# Altium schematic symbol library goldpin_female_sch.SchLib: 39 symbols
Pins are listed as number, name and electrical type; pins without a type are passive.

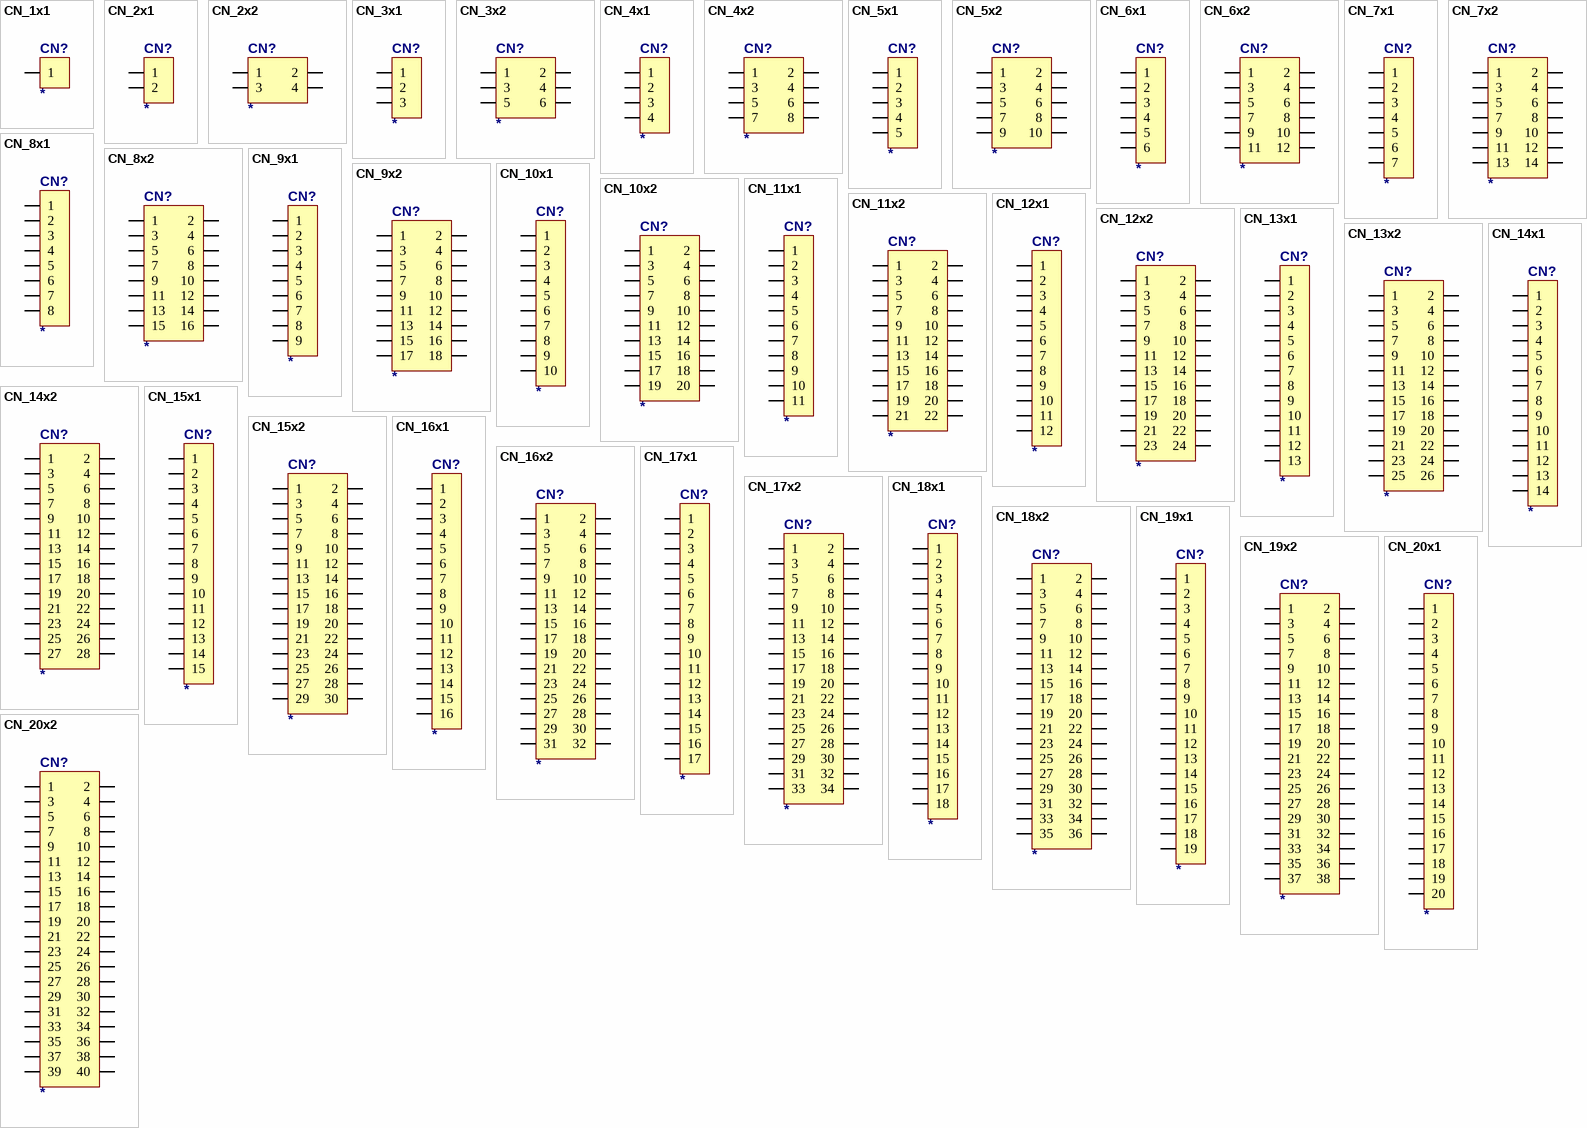
[diagram p0: symbols CN_1x1 to CN_20x2]

## CN_1x1
designator CN?
footprint GP_1x1_F
pins: 1

## CN_2x1
designator CN?
footprint GP_2x1_F
footprint GP_2x1H_F
pins: 1, 2

## CN_2x2
designator CN?
footprint GP_2x2_F
footprint GP_2x2H_F
pins: 1, 2, 3, 4

## CN_3x1
designator CN?
footprint GP_3x1_F
footprint GP_3x1H_F
pins: 1, 2, 3

## CN_3x2
designator CN?
footprint GP_3x2_F
footprint GP_3x2H_F
pins: 1, 2, 3, 4, 5, 6

## CN_4x1
designator CN?
footprint GP_4x1H_F
footprint GP_4x1_F
pins: 1, 2, 3, 4

## CN_4x2
designator CN?
footprint GP_4x2_F
footprint GP_4x2H_F
pins: 1, 2, 3, 4, 5, 6, 7, 8

## CN_5x1
designator CN?
footprint GP_5x1H_F
footprint GP_5x1_F
pins: 1, 2, 3, 4, 5

## CN_5x2
designator CN?
footprint GP_5x2_2mm_F
footprint GP_5x2_2mm_F_SMD
footprint GP_5x2_F
footprint GP_5x2_F_LOW
footprint GP_5x2H_F
pins: 1, 2, 3, 4, 5, 6, 7, 8, 9, 10

## CN_6x1
designator CN?
footprint GP_6x1H_F
footprint GP_6x1_F
pins: 1, 2, 3, 4, 5, 6

## CN_6x2
designator CN?
footprint GP_6x2_2mm_F
footprint GP_6x2_2mm_F_SMD
footprint GP_6x2_F
footprint GP_6x2H_F
footprint GP_6x2_F_SMD
pins: 1, 2, 3, 4, 5, 6, 7, 8, 9, 10, 11, 12

## CN_7x1
designator CN?
footprint GP_7x1H_F
footprint GP_7x1_F
pins: 1, 2, 3, 4, 5, 6, 7

## CN_7x2
designator CN?
footprint GP_7x2_F
footprint GP_7x2H_F
pins: 1, 2, 3, 4, 5, 6, 7, 8, 9, 10, 11, 12, 13, 14

## CN_8x1
designator CN?
footprint GP_8x1_F
footprint GP_8x1_F_LOW
footprint GP_8x1H_F
pins: 1, 2, 3, 4, 5, 6, 7, 8

## CN_8x2
designator CN?
footprint GP_8x2_F
footprint GP_8x2H_F
footprint GP_8x2_2mm_F_SMD
pins: 1, 2, 3, 4, 5, 6, 7, 8, 9, 10, 11, 12, 13, 14, 15, 16

## CN_9x1
designator CN?
footprint GP_9x1H_F
footprint GP_9x1_F
pins: 1, 2, 3, 4, 5, 6, 7, 8, 9

## CN_9x2
designator CN?
footprint GP_9x2_F
footprint GP_9x2H_F
pins: 1, 2, 3, 4, 5, 6, 7, 8, 9, 10, 11, 12, 13, 14, 15, 16, 17, 18

## CN_10x1
designator CN?
footprint GP_10x1_F
footprint GP_10x1_F_LOW
footprint GP_10x1H_F
pins: 1, 2, 3, 4, 5, 6, 7, 8, 9, 10

## CN_10x2
designator CN?
footprint GP_10x2_F
footprint GP_10x2H_F
footprint GP_10x2_2mm_F_SMD
pins: 1, 2, 3, 4, 5, 6, 7, 8, 9, 10, 11, 12, 13, 14, 15, 16, 17, 18, 19, 20

## CN_11x1
designator CN?
footprint GP_11x1_F
pins: 1, 2, 3, 4, 5, 6, 7, 8, 9, 10, 11

## CN_11x2
designator CN?
footprint GP_11x2_F
footprint GP_11x2H_F
pins: 1, 2, 3, 4, 5, 6, 7, 8, 9, 10, 11, 12, 13, 14, 15, 16, 17, 18, 19, 20, 21, 22

## CN_12x1
designator CN?
footprint GP_12x1_F
pins: 1, 2, 3, 4, 5, 6, 7, 8, 9, 10, 11, 12

## CN_12x2
designator CN?
footprint GP_12x2_F
footprint GP_12x2H_F
pins: 1, 2, 3, 4, 5, 6, 7, 8, 9, 10, 11, 12, 13, 14, 15, 16, 17, 18, 19, 20, 21, 22, 23, 24

## CN_13x1
designator CN?
Published: 8-Jun-2000
footprint GP_13x1_F
pins: 1, 2, 3, 4, 5, 6, 7, 8, 9, 10, 11, 12, 13

## CN_13x2
designator CN?
footprint GP_13x2_F
footprint GP_13x2H_F
pins: 1, 2, 3, 4, 5, 6, 7, 8, 9, 10, 11, 12, 13, 14, 15, 16, 17, 18, 19, 20, 21, 22, 23, 24, 25, 26

## CN_14x1
designator CN?
footprint GP_14x1_F
pins: 1, 2, 3, 4, 5, 6, 7, 8, 9, 10, 11, 12, 13, 14

## CN_14x2
designator CN?
footprint GP_14x2_F
footprint GP_14x2H_F
pins: 1, 2, 3, 4, 5, 6, 7, 8, 9, 10, 11, 12, 13, 14, 15, 16, 17, 18, 19, 20, 21, 22, 23, 24, 25, 26, 27, 28

## CN_15x1
designator CN?
footprint GP_15x1_F
pins: 1, 2, 3, 4, 5, 6, 7, 8, 9, 10, 11, 12, 13, 14, 15

## CN_15x2
designator CN?
footprint GP_15x2_F
footprint GP_15x2H_F
pins: 1, 2, 3, 4, 5, 6, 7, 8, 9, 10, 11, 12, 13, 14, 15, 16, 17, 18, 19, 20, 21, 22, 23, 24, 25, 26, 27, 28, 29, 30

## CN_16x1
designator CN?
footprint GP_16x1_F
pins: 1, 2, 3, 4, 5, 6, 7, 8, 9, 10, 11, 12, 13, 14, 15, 16

## CN_16x2
designator CN?
footprint GP_16x2_F
footprint GP_16x2H_F
pins: 1, 2, 3, 4, 5, 6, 7, 8, 9, 10, 11, 12, 13, 14, 15, 16, 17, 18, 19, 20, 21, 22, 23, 24, 25, 26, 27, 28, 29, 30, 31, 32

## CN_17x1
designator CN?
footprint GP_17x1_F
pins: 1, 2, 3, 4, 5, 6, 7, 8, 9, 10, 11, 12, 13, 14, 15, 16, 17

## CN_17x2
designator CN?
footprint GP_17x2_F
footprint GP_17x2H_F
pins: 1, 2, 3, 4, 5, 6, 7, 8, 9, 10, 11, 12, 13, 14, 15, 16, 17, 18, 19, 20, 21, 22, 23, 24, 25, 26, 27, 28, 29, 30, 31, 32, 33, 34

## CN_18x1
designator CN?
footprint GP_18x1_F
pins: 1, 2, 3, 4, 5, 6, 7, 8, 9, 10, 11, 12, 13, 14, 15, 16, 17, 18

## CN_18x2
designator CN?
footprint GP_18x2_F
footprint GP_18x2H_F
pins: 1, 2, 3, 4, 5, 6, 7, 8, 9, 10, 11, 12, 13, 14, 15, 16, 17, 18, 19, 20, 21, 22, 23, 24, 25, 26, 27, 28, 29, 30, 31, 32, 33, 34, 35, 36

## CN_19x1
designator CN?
footprint GP_19x1_F
pins: 1, 2, 3, 4, 5, 6, 7, 8, 9, 10, 11, 12, 13, 14, 15, 16, 17, 18, 19

## CN_19x2
designator CN?
footprint GP_19x2_F
footprint GP_19x2H_F
pins: 1, 2, 3, 4, 5, 6, 7, 8, 9, 10, 11, 12, 13, 14, 15, 16, 17, 18, 19, 20, 21, 22, 23, 24, 25, 26, 27, 28, 29, 30, 31, 32, 33, 34, 35, 36, 37, 38

## CN_20x1
designator CN?
footprint GP_20x1_F
pins: 1, 2, 3, 4, 5, 6, 7, 8, 9, 10, 11, 12, 13, 14, 15, 16, 17, 18, 19, 20

## CN_20x2
designator CN?
footprint GP_20x2H_F
footprint GP_20x2H_F_EDGE
footprint GP_20x2_F
pins: 1, 2, 3, 4, 5, 6, 7, 8, 9, 10, 11, 12, 13, 14, 15, 16, 17, 18, 19, 20, 21, 22, 23, 24, 25, 26, 27, 28, 29, 30, 31, 32, 33, 34, 35, 36, 37, 38, 39, 40